# Altium schematic symbol library SenaCorpLibSCH.SchLib: 181 symbols (part 2 of 2)
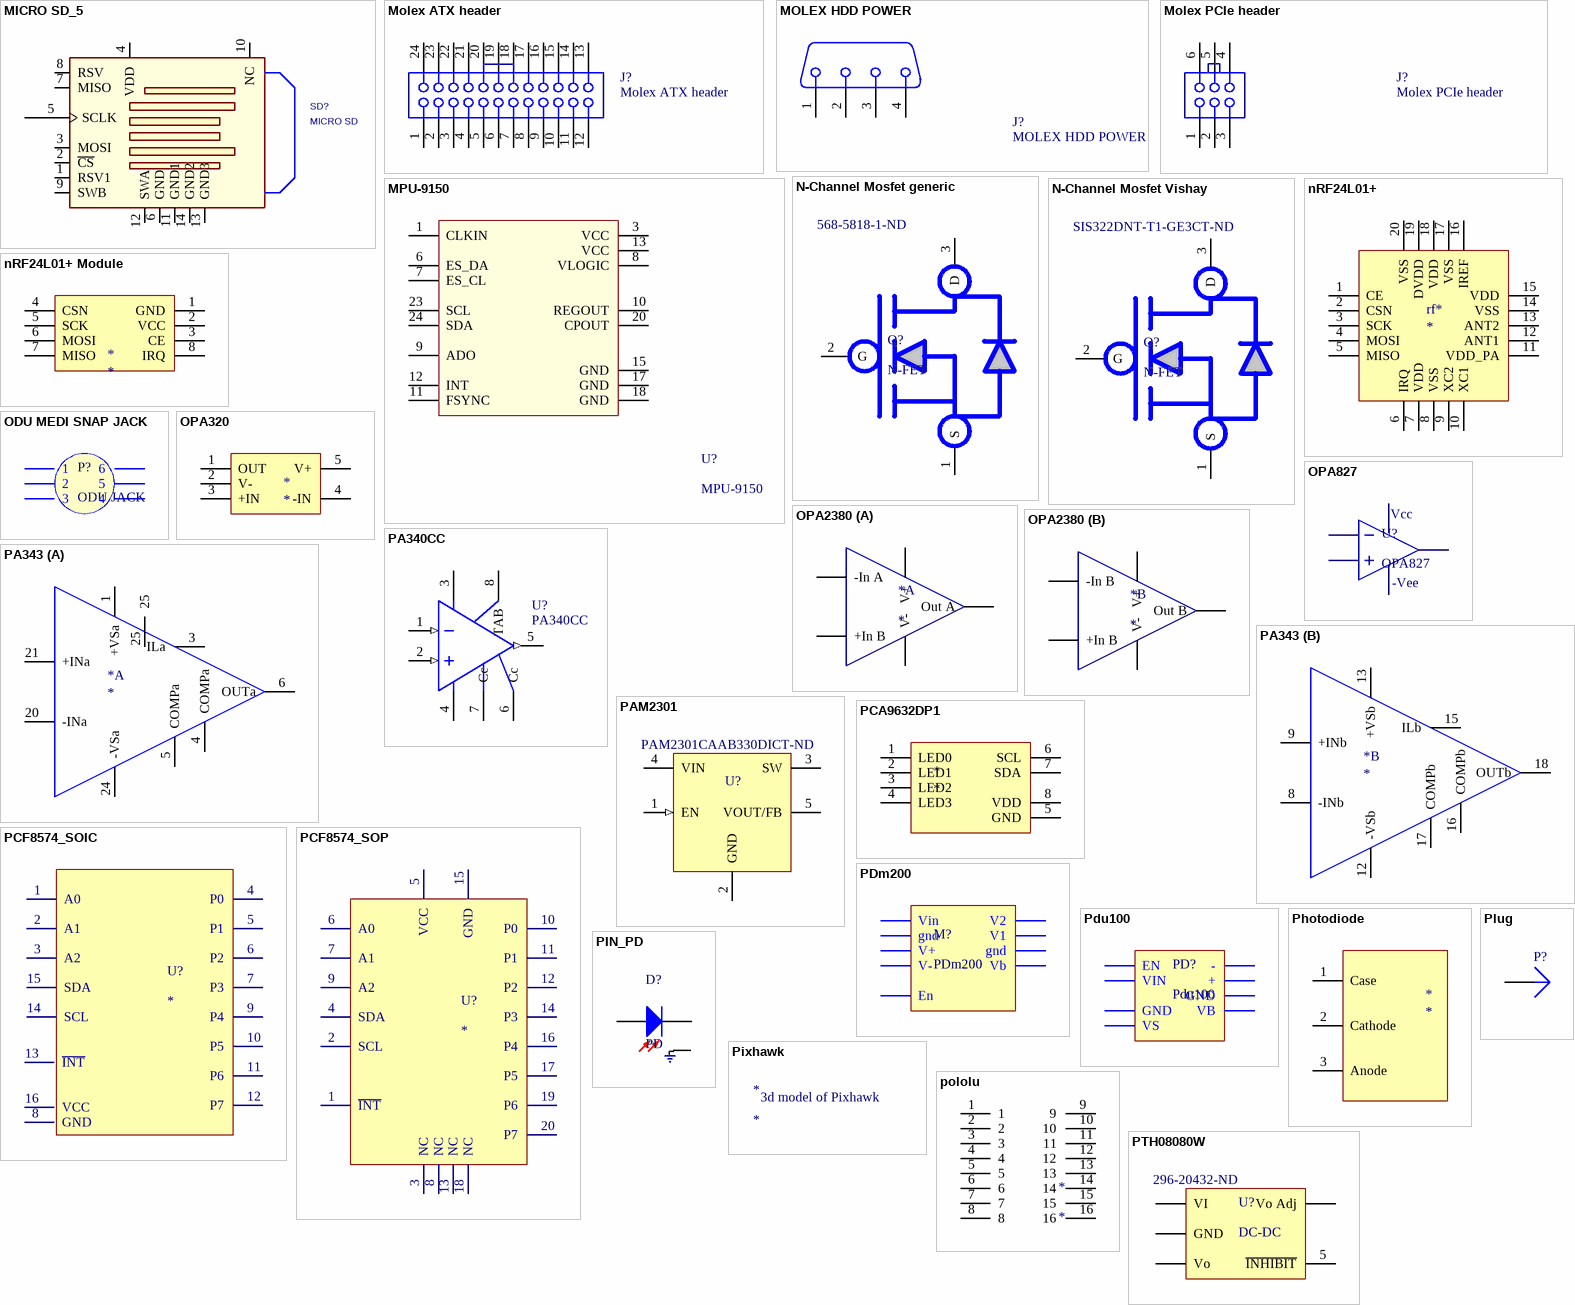
[diagram p8: symbols MICRO SD_5 to PTH08080W]

## MPU-9150
designator U?
9 Axis IMU with Sensor Fusion; Manufacturer: InvenSense; Output Type: I²C; Sensor Type: Motion Tracking; Supplier 1: Digi-Key; Pricing: 1=15.31, 5=13.43, 10=12.087, 25=10.7436, 50=9.9378, 100=8.5948, 250=8.3262, 500=8.05764, 750=7.78905 (CAD); Category: Sensors, Transducers; Manufacturer Part Number: MPU-9150; Supplier: Digi-Key; RoHS: RoHS Compliant; Supplier Part Number 1: 1428-1009-1-ND
footprint QFN50P400X400X110-24N (QFN, 24-Leads, Body 4.00x4.00mm, Pitch 0.50mm, IPC Medium Density)
pins: 1 CLKIN "Optional external reference clock input. Connect to GND if unused.", 2 NC hidden "Reserved. Do not connect.", 3 VCC "Power supply voltage and Digital I/O supply voltage", 4 NC hidden "Reserved. Do not connect.", 5 NC hidden "Reserved. Do not connect.", 6 ES_DA "Auxiliary I2C master serial data", 7 ES_CL "Auxiliary I2C master serial clock", 8 VLOGIC "Digital I/O supply voltage", 9 ADO "I2C Slave Address LSB (AD0)", 10 REGOUT "Regulator filter capacitor connection", 11 FSYNC "Frame synchronization digital input. Connect to GND if unused.", 12 INT "Interrupt digital output (totem pole or open-drain)", 13 VCC "Power supply voltage and Digital I/O supply voltage", 14 NC hidden "Reserved. Do not connect.", 15 GND "Power supply ground", 16 NC hidden "Reserved. Do not connect.", 17 GND "Power supply ground", 18 GND "Power supply ground", 19 NC hidden "Reserved. Do not connect.", 20 CPOUT "Charge pump capacitor connection", 21 NC hidden "Reserved. Do not connect.", 22 NC hidden "Reserved. Do not connect.", 23 SCL "I2C serial clock (SCL)", 24 SDA "I2C serial data (SDA)"

## N-Channel Mosfet generic
designator Q?, comment N-FET
568-5818-1-ND; Manufacturer Part Number: 2N7002P,215; Manufacturer: NXP Semiconductors; Gate Charge (Qg) @ Vgs: 0.8nC @ 4.5V; Current - Continuous Drain (Id) @ 25°C: 360mA (Ta); Power - Max: 350mW; Rds On (Max) @ Id, Vgs: 1.6 Ohm @ 500mA, 10V; FET Type: MOSFET N-Channel, Metal Oxide; Input Capacitance (Ciss) @ Vds: 50pF @ 10V; Drain to Source Voltage (Vdss): 60V; Vgs(th) (Max) @ Id: 2.4V @ 250µA; FET Feature: Logic Level Gate; Category: Discrete Semiconductor Products; Supplier: Digi-Key; Package / Case: TO-236-3, SC-59, SOT-23-3; RoHS: RoHS Compliant; Packaging: Tape & Reel (TR); Mounting Type: Surface Mount; Supplier Device Package: SOT-23 (TO-236AB); Supplier 1: Digi-Key; Supplier Part Number: 568-5818-1-ND
footprint SOT23-3 (SOT23-3 MEDIUM DENSITY)
pins: 1 S "Source", 2 G "Gate", 3 D "Drain"

## N-Channel Mosfet Vishay
designator Q?, comment N-FET  Supplier Part Number 1: SIS322DNT-T1-GE3CT-ND
N-Channel Mosfet; Rds On (Max) @ Id, Vgs: 7.5 mOhm @ 10A, 10V; Power - Max: 19.8W; Vgs(th) (Max) @ Id: 2.4V @ 250µA; FET Feature: Logic Level Gate; FET Type: MOSFET N-Channel, Metal Oxide; Drain to Source Voltage (Vdss): 30V; Current - Continuous Drain (Id) @ 25°C: 15.3A (Ta), 38.3A (Tc); Gate Charge (Qg) @ Vgs: 21.5nC @ 10V; Input Capacitance (Ciss) @ Vds: 1000pF @ 15V; Supplier 1: Digi-Key; ComponentLink1URL: http://www.vishay.com/docs/63569/sis322dnt.pdf; ComponentLink1Description: http://www.vishay.com/docs/63569/sis322dnt.pdf; Pricing: 1=0.79, 10=0.693, 25=0.6116, 100=0.533, 250=0.464, 500=0.39496, 1000=0.31636 (CAD); Supplier Device Package: PowerPAK® 1212-8
footprint PowerPAK® 1212-8T (Thin PowerPAK® 1212-8  Vishay Siliconix)
pins: 1 S "Source", 2 G "Gate", 3 D "Drain"

## nRF24L01+
designator rf*
pins: 1 CE "Chip Enable", 2 CSN "SPI Chip Select", 3 SCK "SPI Clock", 4 MOSI "SPI Slave Data Input", 5 MISO "SPI Slave Data Output w/Tri-state", 6 IRQ "interrupt pin", 7 VDD "Power", 8 VSS "Power", 9 XC2 "Crystal Pin 2", 10 XC1 "Crystal Pin 1", 11 VDD_PA "Power Output", 12 ANT1 "RF", 13 ANT2 "RF", 14 VSS "Power", 15 VDD "Power", 16 IREF "Analog Input", 17 VSS "Power", 18 VDD "Power", 19 DVDD "Power Output", 20 VSS "Power"

## nRF24L01+ Module
designator *
2.4G Wireless nRF24L01+ Module, SPI 8pin dil header
pins: 1 GND (power), 2 VCC, 3 CE, 4 CSN, 5 SCK, 6 MOSI, 7 MISO, 8 IRQ

## ODU MEDI SNAP JACK
designator P?, comment ODU JACK
G11M07-P06QF00-0070
footprint Jack (ODU MEDICAL) (ODU MEDI-SNAP (G11M07-P06QF00-0070))
pins: 1, 2, 3, 4, 5, 6

## OPA320
designator *
pins: 1 OUT, 2 V-, 3 +IN, 4 -IN, 5 V+

## OPA827
designator U?
OPAMP Low-Noise, High-Precision, JFET-Input
footprint Msop08 (Shrink Small Outline; 8 Leads; Body Width 3 mm; Pitch 0.65 mm)
pins: 2 -IN "Inverting Input", 3 +IN "Non Inverting Input", 4 GND "Ground", 6 OUT "Output", 7 V+ "Supply"
text: Vcc; -Vee

## OPA2380
designator *
footprint DB008_M (SOP, 8-Leads, Body 3x5.3mm, Pitch 0.65mm, IPC Low Density)
part A pins: 1 Out A "Tip", 2 -In A "Tip", 3 +In B "Tip", 4 V- "Tip", 8 V+ "Tip"
part B pins: 4 V- "Tip", 5 +In B "Tip", 6 -In B "Tip", 7 Out B "Tip", 8 V+ "Tip"

## PA340CC
designator U?
High Voltage Power Operational Amplifier; Note: Pin 5 is not connected; Pin 4 connected to case.; Published: 8-Jun-2000; LatestRevisionDate: 17-Jul-2002; LatestRevisionNote: Re-released for DXP Platform.; DatasheetVersion: 1992; PackageVersion: 1990; PackageReference: H-08A; Publisher: Altium Limited; PackageDescription: Can; 8 Leads; Pin Circle Dia. 5.08 mm; Lead Dia. 0.53 mm (max); ComponentLink1Description: Manufacturer Link; ComponentLink1URL: http://www.analog.com/
footprint Apex-cc (7-Pin DDPAK surface mount)
pins: 1 IN- (in), 2 IN+ (in), 3 V+ (power), 4 V- (power), 5 OUT (out), 6 Cc "COMP", 7 Cc "COMP", 8 TAB

## PA343
designator *
footprint SOP100P1420X265_HS-24N (SOP, 24-Leads, Body 16.0x11.1mm (max), Pitch 1.00mm, IPC Medium Density)
part A pins: 1 +VSa, 3 ILa, 4 COMPa, 5 COMPa, 6 OUTa, 20 -INa, 21 +INa, 24 -VSa, 25
part B pins: 8 -INb, 9 +INb, 12 -VSb, 13 +VSb, 15 ILb, 16 COMPb, 17 COMPb, 18 OUTb

## PAM2301
designator U?  Supplier Part Number: PAM2301CAAB330DICT-ND  (hidden comment: *)
800mA STEP-DOWN DC-DC CONVERTER; Manufacturer Part Number: PAM2301CAAB330; Manufacturer: Diodes Incorporated; Topology: Buck; Frequency - Switching: 1.5MHz; Voltage - Input (Min): 2.5V; Voltage - Output (Min/Fixed): 3.3V; Voltage - Input (Max): 5.5V; Output Configuration: Positive; Synchronous Rectifier: Yes; Number of Outputs: 1; Output Type: Fixed; Supplier Device Package: TSOT-25; Packaging: Cut Tape (CT); Package / Case: SOT-23-5 Thin, TSOT-23-5; Voltage - Output (Max): -; RoHS: RoHS Compliant; Category: Integrated Circuits (ICs); Current - Output: 800mA; Operating Temperature: -40°C ~ 85°C (TA); Supplier: Digi-Key; Mounting Type: Surface Mount; Function: Step-Down; ComponentLink1URL: http://www.diodes.com/datasheets/PAM2301.pdf; ComponentLink1Description: http://www.diodes.com/datasheets/PAM2301.pdf; Pricing: 1=0.91, 10=0.761, 25=0.666, 100=0.5704, 250=0.49464, 500=0.41898, 1000=0.323 (CAD)
footprint SOT23-5 (SOT23, 5-Leads, Body 2.9x1.6mm, Pitch 0.95mm, Lead Span 2.7mm, IPC Low Density)
pins: 1 EN (in) "Enable Control Input. Force this pin voltage above 1.5V, enables the chip, and  below 0.3V shuts down the device.", 2 GND (power) "Ground", 3 SW "The drains of the internal main and synchronous power MOSFET.", 4 VIN (power) "Power Supply", 5 VOUT/FB "VOUT: Output voltage feedback pin, an internal resistive divider divides the  output voltage down for comparison to the internal reference voltage.  FB: Feedback voltage to internal error amplifier, the threshold voltage is 0.6V."

## PCA9632DP1
designator *
4-bit Fm+ I2C-bus low power LED driver
pins: 1 LED0 "LED driver 0", 2 LED1 "LED driver 1", 3 LED2 "LED driver 1", 4 LED3 "LED driver 1", 5 GND, 6 SCL "i2c clock", 7 SDA "i2c data", 8 VDD "Power"

## PCF8574_SOIC
designator U?
footprint DW016_M (16-Pin Plastic Small Outline Integrated Circuit 1.27 mm Pitch, IPC Low Density)
footprint N016 (DIP; 16 Leads; Row Spacing 7.62 mm; Pitch 2.54 mm)
pins: 1 A0, 2 A1, 3 A2, 4 P0, 5 P1, 6 P2, 7 P3, 8 GND, 9 P4, 10 P5, 11 P6, 12 P7, 13 ~{INT}, 14 SCL, 15 SDA, 16 VCC

## PCF8574_SOP
designator U?
footprint TSSOP40P640X120-20M (TSSOP, 20-Leads, Body 5.1x4.5mm (max), Pitch 0.40mm, IPC Low Density)
footprint DGV020 (Shrink Small Outline; 20 Leads; Body Width 4.4 mm; Pitch 0.4 mm)
footprint PW020 (Shrink Small Outline; 20 Leads; Body Width 4.4 mm; Pitch 0.65 mm)
pins: 1 ~{INT}, 2 SCL, 3 NC, 4 SDA, 5 VCC, 6 A0, 7 A1, 8 NC, 9 A2, 10 P0, 11 P1, 12 P2, 13 NC, 14 P3, 15 GND, 16 P4, 17 P5, 18 NC, 19 P6, 20 P7

## PDm200
designator M?
Miniature Piezo Driver
footprint PDm200 (High Performance Piezo Driver)
pins: 0 hidden "Mounting Holes", 1 Vin "Input Signal", 2 gnd "Ground", 3 V+ "Positive Supply", 4 V- "Negative Supply", 5 En "Enable", 6 Vb "Bias Voltage", 7 gnd "Ground", 8 V1 "High Speed Output", 9 V2 "Low Noise Output"

## Pdu100
designator PD?
PDu100 Micro Piezo Driver
footprint PDu100 (PDu100 Micro Piezo Driver)
pins: + "Positive Out", - "Negative Out", EN "Enable", GND "Ground", GND "Ground", VB "Bias Voltage", VIN "Input", VS "Supply Voltage"

## Photodiode
designator *
Photodiode
footprint TO-39 (Can; 3 Leads; Pin Circle Dia. 5.08 mm; Lead Dia. 0.49 mm (max))
pins: 1 Case, 2 Cathode, 3 Anode

## PIN_PD
designator D?, comment PD
PIN Photodiode with Case ground; Published: 8-Jun-2000; LatestRevisionDate: 17-Jul-2002; LatestRevisionNote: Re-released for DXP Platform.; PackageVersion: Feb-2002; PackageReference: 3.2X1.6X1.1; Publisher: Altium Limited; PackageDescription: SM LED; 2 Flat Leads
footprint PIN_PD (PIN Photodiode edge connected)
footprint To-39 PD (Photodiode footprint)
footprint PD Flat (PD  lying flat on the pcb with holder)
pins: 1 PD-A "Laser diode Anode and PD Cathode", 2 PD-K "Laser Diode Cathode", 3 GND "Case Gnd"

## Pixhawk
designator *
footprint pixhawk (3d model of body)
text: 3d model of Pixhawk

## Plug
designator P?
Plug; LatestRevisionDate: 17-Jul-2002; LatestRevisionNote: Re-released for DXP Platform.; Publisher: Altium Limited
footprint PIN1 (Connector; Plug)
signal-integrity model Connector
pins: 1

## pololu
designator *
footprint Pololu MOD0.6x0.8 inch 0.1 DIP (Pololu standard board outline w / TH pins (scored))
footprint Pololu MOD0.8x0.8 inch 0.1 DIP SMTpins (Expanded Pololu compatible  board outline w / SMT pins (scored))
pins: 1, 2, 3, 4, 5, 6, 7, 8, 9, 10, 11, 12, 13, 14, 15, 16

## PTH08080W
designator U?, comment DC-DC  Supplier Part Number: 296-20432-ND
2.25 A, 4.5-V to 18-V Input Wide Adjust Miniature Power Module; Manufacturer: Texas Instruments; Power (Watts) - Manufacture Series: 12W; Manufacturer Part Number: PTH08080WAH; Voltage - Input (Max): 18V; Voltage - Input (Min): 4.5V; Number of Outputs: 1; Efficiency: 93.5%; Power (Watts) - Max: 12.4W; Voltage - Output 1: 0.9 ~ 5.5 V; Current - Output (Max): 2.25A; Features: -; Size / Dimension: 0.60" L x 0.50" W x 0.32" H (15.2mm x 12.7mm x 8.1mm); Supplier: Digi-Key; Operating Temperature: -40°C ~ 85°C; Category: Power Supplies - Board Mount; Type: Non-Isolated PoL Module; Voltage - Output 3: -; Packaging: Tray; Package / Case: 5-DIP Module; Mounting Type: Through Hole; Voltage - Output 2: -; RoHS: RoHS Compliant; Voltage - Isolation: -; Pricing: 1=8.75, 5=8.628, 10=8.502, 50=8.0024, 100=7.7524, 250=7.50232, 500=7.00216 (CAD); ComponentLink1URL: http://www.ti.com/lit/ds/symlink/pth08080w.pdf; ComponentLink1Description: http://www.ti.com/lit/ds/symlink/pth08080w.pdf
footprint PTH08080W (2.25 A, 4.5-V to 18-V Input Wide Adjust Miniature Power Module)
pins: 1 VI, 2 GND, 3 Vo, 4 Vo Adj, 5 ~{INHIBIT}

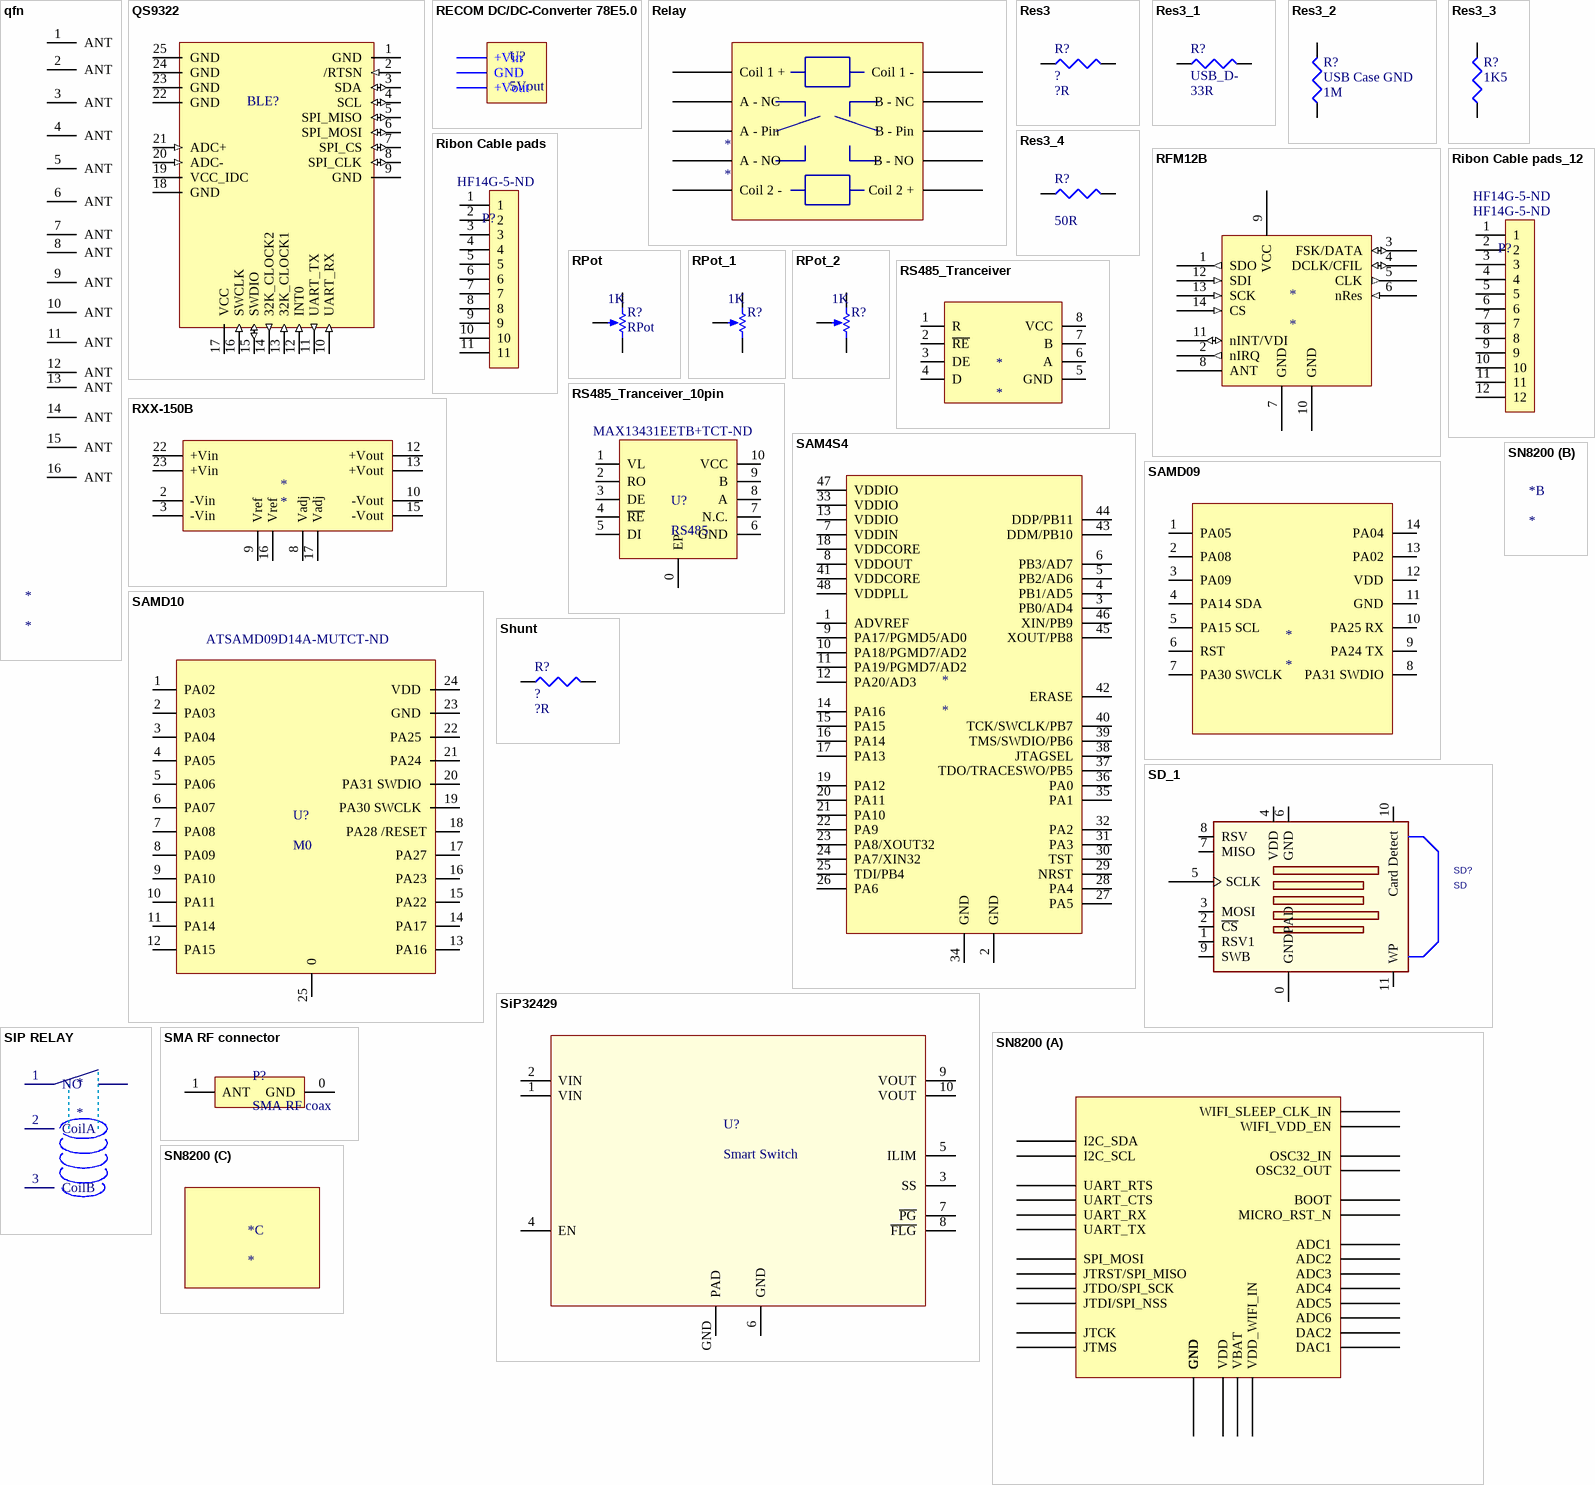
[diagram p5: symbols qfn to SN8200]

## qfn
designator *
footprint QFN65P400X400X80_HS-17N (QFN, 16-Leads, Body 4.00x4.00mm, Pitch 0.65mm, Thermal Pad 2.08x2.08mm, IPC Medium Density)
footprint SOT403-1_M (TSOP, 16-Leads, Body 5x4.4mm, Pitch 0.65mm, IPC Low Density)
pins: 1 ANT, 2 ANT, 3 ANT, 4 ANT, 5 ANT, 6 ANT, 7 ANT, 8 ANT, 9 ANT, 10 ANT, 11 ANT, 12 ANT, 13 ANT, 14 ANT, 15 ANT, 16 ANT

## QS9322
designator BLE?  (value not drawn)
QS9322 Bluetooth 4.0 Low Energy Module
footprint QS9322 (QS9322 Bluetooth 4.0 Low Energy Module)
pins: 1 GND (power) "Should be connected to ground plane on application PCB", 2 /RTSN (in) "Hardware reset, active low.", 3 SDA (io) "GPIO / I2C data with pull-up", 4 SCL (io) "GPIO / I2C clock", 5 SPI_MISO (io) "GPIO / SPI data master in/slave out", 6 SPI_MOSI (io) "GPIO / SPI data master out/slave in", 7 SPI_CS (io) "GPIO / SPI chip select", 8 SPI_CLK (io) "GPIO / SPI clock", 9 GND (power) "Should be connected to ground plane on application PCB", 10 UART_RX (in) "GPIO / UART RX data input", 11 UART_TX (out) "GPIO / UART TX data output", 12 INT0 (in) "GPIO / Interrupt", 13 32K_CLOCK1 (in) "Not connected", 14 32K_CLOCK2 (out) "Not connected", 15 SWDIO (io) "SWD data with pull-up", 16 SWCLK (in) "SWD clock input with pull-up 17", 17 VCC (power) "Power supply (2.4~3.6V)", 18 GND (power) "Should be connected to ground plane on application PCB", 19 VCC_IDC (power) "Not connected", 20 ADC- (in) "GPIO / ADC-", 21 ADC+ (in) "GPIO / ADC+", 22 GND (power) "Should be connected to ground plane on application PCB", 23 GND (power) "Should be connected to ground plane on application PCB", 24 GND (power) "Should be connected to ground plane on application PCB", 25 GND (power) "Should be connected to ground plane on application PCB"

## RECOM DC/DC-Converter 78E5.0
designator U?, comment 5Vout
DC/DC-Converter 5V / 500 mA Output
footprint RECOM R-78E5.0-0.5 (DC/DC-Converter 5V / 500 mA Output)
pins: 1 +Vin "Vin", 2 GND "Ground", 3 +Vout "Vout"

## Relay
designator *
Relay 5v DPDT 2 coil latching or 1 coil non latching
footprint DIP Relay DPDT
footprint Relay SMT
pins: 1 Coil 1 + "Tip", 3 A - NC "Tip", 4 A - Pin "Tip", 5 A - NO "Tip", 6 Coil 2 - "Tip", 7 Coil 2 + "Tip", 8 B - NO "Tip", 9 B - Pin "Tip", 10 B - NC "Tip", 12 Coil 1 - "Tip"

## Res3
designator R?, comment ?  value ?R
Resistor; Published: 8-Jun-2000; LatestRevisionDate: 04-Mar-2005; LatestRevisionNote: PCB Footprint replaced.; PackageReference: J1-0603; Publisher: Altium Limited
footprint 0603 (SMT  0603)
footprint 3225[1210] (Chip Resistor; Body 3.2 x 2.5 mm (LxW typ))
footprint 5025[2010] (Chip Resistor; Body 5.0 x 2.5 mm (LxW typ))
footprint 6332[2512] (Chip Resistor; Body 6.3 x 3.2 mm (LxW typ))
simulation model RESISTOR (Resistor)
signal-integrity model Res
footprint RESC1608M
footprint SMD0603-SST (SST SMD 0603 small silk screen)
footprint Resistor 2725
pins: 1, 2

## Res3_1
designator R?, comment USB_D-  value 33R
Resistor; Published: 8-Jun-2000; LatestRevisionDate: 04-Mar-2005; LatestRevisionNote: PCB Footprint replaced.; PackageReference: J1-0603; Publisher: Altium Limited
footprint J1-0603 (Chip Resistor; Body 1.6 x 0.8 mm (LxW typ))
footprint 3225[1210] (Chip Resistor; Body 3.2 x 2.5 mm (LxW typ))
footprint 5025[2010] (Chip Resistor; Body 5.0 x 2.5 mm (LxW typ))
footprint 6332[2512] (Chip Resistor; Body 6.3 x 3.2 mm (LxW typ))
simulation model RESISTOR (Resistor)
signal-integrity model Res
footprint Model Name (Footprint not found)
footprint RESC0603M (Chip Resistor, Body 0.6x0.3mm, IPC Low Density)
footprint RESC1608M
pins: 1, 2

## Res3_2
designator R?, comment USB Case GND  value 1M
Resistor; Published: 8-Jun-2000; LatestRevisionDate: 04-Mar-2005; LatestRevisionNote: PCB Footprint replaced.; PackageReference: J1-0603; Publisher: Altium Limited
footprint J1-0603 (Chip Resistor; Body 1.6 x 0.8 mm (LxW typ))
footprint 3225[1210] (Chip Resistor; Body 3.2 x 2.5 mm (LxW typ))
footprint 5025[2010] (Chip Resistor; Body 5.0 x 2.5 mm (LxW typ))
footprint 6332[2512] (Chip Resistor; Body 6.3 x 3.2 mm (LxW typ))
simulation model RESISTOR (Resistor)
signal-integrity model Res
footprint RESC1608M
pins: 1, 2

## Res3_3
designator R?  value 1K5
Resistor; Published: 8-Jun-2000; LatestRevisionDate: 04-Mar-2005; LatestRevisionNote: PCB Footprint replaced.; PackageReference: J1-0603; Publisher: Altium Limited
footprint J1-0603 (Chip Resistor; Body 1.6 x 0.8 mm (LxW typ))
footprint 3225[1210] (Chip Resistor; Body 3.2 x 2.5 mm (LxW typ))
footprint 5025[2010] (Chip Resistor; Body 5.0 x 2.5 mm (LxW typ))
footprint 6332[2512] (Chip Resistor; Body 6.3 x 3.2 mm (LxW typ))
simulation model RESISTOR (Resistor)
signal-integrity model Res
footprint RESC1608M
pins: 1, 2

## Res3_4
designator R?  value 50R
Resistor; Published: 8-Jun-2000; LatestRevisionDate: 04-Mar-2005; LatestRevisionNote: PCB Footprint replaced.; PackageReference: J1-0603; Publisher: Altium Limited
footprint J1-0603 (Chip Resistor; Body 1.6 x 0.8 mm (LxW typ))
footprint 3225[1210] (Chip Resistor; Body 3.2 x 2.5 mm (LxW typ))
footprint 5025[2010] (Chip Resistor; Body 5.0 x 2.5 mm (LxW typ))
footprint 6332[2512] (Chip Resistor; Body 6.3 x 3.2 mm (LxW typ))
simulation model RESISTOR (Resistor)
signal-integrity model Res
footprint RESC1608M
pins: 1, 2

## RFM12B
designator *
footprint RFM12S
pins: 1 SDO (out), 2 nIRQ (out), 3 FSK/DATA (io), 4 DCLK/CFIL (io), 5 CLK (out), 6 nRes (in), 7 GND (power), 8 ANT, 9 VCC (power), 10 GND (power), 11 nINT/VDI (io), 12 SDI (in), 13 SCK (in), 14 CS (in)

## Ribon Cable pads
designator P?, comment Supplier Part Number 1: HF14G-5-ND  (hidden comment: Ribon Cable pads 11 pad)
Pads to solder a ribbon cable to 11pins; Supplier 1: Digi-Key; Pricing: 1=19.53, 5=18.144 (CAD)
footprint Ribbon 11 1.27mm (Pads for 1.27mm pitch ribbon cable)
pins: 1, 2, 3, 4, 5, 6, 7, 8, 9, 10, 11

## Ribon Cable pads_12
designator P?, comment Supplier Part Number 1: HF14G-5-ND  (hidden comment: Ribon Cable pads 12 pads)
Pads to solder a ribbon cable to 12pins; Manufacturer Part Number: HF539/14; Manufacturer: 3M; Shielding: Unshielded; Jacket Color: Gray; Insulation Resistance: 10 GOhm; Conductor Strand: 19 Strands / 40 AWG; Conductor Material: Copper, Tinned; Cable Type: Flat Cable; Ribbon Width: 0.700" (17.78mm); Ribbon Thickness: 0.035" (0.89mm); Ratings: UL Style 21682; Number of Conductors: 14; Pitch: 0.050" (1.27mm); Voltage: 300V; Wire Gauge: 28 AWG; First Conductor Mark: Blue; Jacket (Insulation) Material: Polyolefin (PO); Current Rating: 1A; Supplier 1: Digi-Key; Supplier: Digi-Key; Operating Temperature: -40°C ~ 105°C; Category: Cables, Wires; RoHS: RoHS Compliant; Length: 5.0' (1.52m); Features: Zippable; ComponentLink1URL: http://media.digikey.com/pdf/Data%20Sheets/3M%20PDFs/HF539%20Drawing.pdf; ComponentLink1Description: http://media.digikey.com/pdf/Data%20Sheets/3M%20PDFs/HF539%20Drawing.pdf; Pricing: 1=19.53, 5=18.144 (CAD); Supplier Part Number: HF14G-5-ND
footprint Ribbon 12 1.27mm (Pads for 1.27mm pitch ribbon cable)
pins: 1, 2, 3, 4, 5, 6, 7, 8, 9, 10, 11, 12

## RPot
designator R?  value 1K
Potentiometer; Sim Note: Enter the Resistance value and the set point into parameter fields.; Set Position: 0.5; Published: 8-Jun-2000; LatestRevisionDate: 17-Jul-2002; LatestRevisionNote: Re-released for DXP Platform.; PackageReference: VR5; Publisher: Altium Limited; PackageDescription: Variable Resistor, Thru-Hole; 3 Leads
footprint Rpot (Adjustable Resistor 3 pin, top screw)
footprint Res Trim POT SMD (TRIMMER SMD TT Electronics)
pins: 1 TOP, 2 TAP, 3 BOT
1 alternate drawing of the same symbol

## RPot_1
designator R?  value 1K
Potentiometer; Sim Note: Enter the Resistance value and the set point into parameter fields.; Set Position: 0.5; Published: 8-Jun-2000; LatestRevisionDate: 17-Jul-2002; LatestRevisionNote: Re-released for DXP Platform.; PackageReference: VR5; Publisher: Altium Limited; PackageDescription: Variable Resistor, Thru-Hole; 3 Leads
simulation model POT (Potentiometer)
footprint VR5 (Thru-Hole; 3 Leads)
pins: 1 TOP, 2 TAP, 3 BOT
1 alternate drawing of the same symbol

## RPot_2
designator R?  value 1K
Potentiometer; Sim Note: Enter the Resistance value and the set point into parameter fields.; Set Position: 0.5; Published: 8-Jun-2000; LatestRevisionDate: 17-Jul-2002; LatestRevisionNote: Re-released for DXP Platform.; PackageReference: VR5; Publisher: Altium Limited; PackageDescription: Variable Resistor, Thru-Hole; 3 Leads
footprint VR5 (Thru-Hole; 3 Leads)
simulation model POT (Potentiometer)
pins: 1 TOP, 2 BOT, 3 TAP
1 alternate drawing of the same symbol

## RS485_Tranceiver
designator *
footprint SOIC8
pins: 1 R, 2 ~{RE}, 3 DE, 4 D, 5 GND, 6 A, 7 B, 8 VCC

## RS485_Tranceiver_10pin
designator U?, comment RS485  Supplier Part Number: MAX13431EETB+TCT-ND
RS-485 Transceivers with Low-Voltage Logic Interface; Manufacturer Part Number: MAX13431EETB+T; Manufacturer: Maxim Integrated; Receiver Hysteresis: 15mV; Description: IC TXRX RS422/485 16MBPS 10TDFN; Voltage - Supply: 3 V ~ 5.5 V; Data Rate: 16Mbps; Duplex: Half; Protocol: RS422, RS485; Number of Drivers/Receivers: 1/1; Category: Integrated Circuits (ICs); Mounting Type: Surface Mount; Type: Transceiver; Operating Temperature: -40°C ~ 85°C; Supplier Device Package: 10-TDFN-EP (3x3); Supplier: Digi-Key; Package / Case: 10-WFDFN Exposed Pad; Packaging: Cut Tape (CT); RoHS: RoHS Compliant; ComponentLink1URL: http://datasheets.maximintegrated.com/en/ds/MAX13430E-MAX13433E.pdf; ComponentLink1Description: http://datasheets.maximintegrated.com/en/ds/MAX13430E-MAX13433E.pdf; Pricing: 1=7.02, 10=6.615, 25=5.292, 50=5.0276, 100=4.6306, 250=4.39248, 500=4.23372 (CAD)
footprint DFN10_3X3MM
footprint TSSOP50P490X110-10N (TSSOP, 10-Leads, Body 2.97x2.97mm, Pitch 0.50mm, IPC Medium Density)
pins: 0 EP "Connect EP to GND", 1 VL "VL Input Logic-Supply Voltage", 2 RO "Receiver Output", 3 DE "Driver Output Enable.", 4 ~{RE} "Active-Low Receiver Output Enable", 5 DI "Driver input", 6 GND "Ground", 7 N.C. "No Connection. Not internally connected. N.C. can be connected to GND", 8 A "Noninverting Receiver Input and Noninverting Driver Output", 9 B "Inverting Receiver Input and Inverting Driver Output", 10 VCC "VCC Input Supply Voltage."

## RXX-150B
designator *
footprint Recom DIP24
pins: 2 -Vin, 3 -Vin, 8 Vadj, 9 Vref, 10 -Vout, 12 +Vout, 13 +Vout, 15 -Vout, 16 Vref, 17 Vadj, 22 +Vin, 23 +Vin

## SAM4S4
designator *
footprint QFP48
pins: 1 ADVREF, 2 GND, 3 PB0/AD4, 4 PB1/AD5, 5 PB2/AD6, 6 PB3/AD7, 7 VDDIN, 8 VDDOUT, 9 PA17/PGMD5/AD0, 10 PA18/PGMD7/AD2, 11 PA19/PGMD7/AD2, 12 PA20/AD3, 13 VDDIO, 14 PA16, 15 PA15, 16 PA14, 17 PA13, 18 VDDCORE, 19 PA12, 20 PA11, 21 PA10, 22 PA9, 23 PA8/XOUT32, 24 PA7/XIN32, 25 TDI/PB4, 26 PA6, 27 PA5, 28 PA4, 29 NRST, 30 TST, 31 PA3, 32 PA2, 33 VDDIO, 34 GND, 35 PA1, 36 PA0, 37 TDO/TRACESWO/PB5, 38 JTAGSEL, 39 TMS/SWDIO/PB6, 40 TCK/SWCLK/PB7, 41 VDDCORE, 42 ERASE, 43 DDM/PB10, 44 DDP/PB11, 45 XOUT/PB8, 46 XIN/PB9, 47 VDDIO, 48 VDDPLL

## SAMD09
designator *
footprint SOIC14
pins: 1 PA05, 2 PA08, 3 PA09, 4 PA14 SDA, 5 PA15 SCL, 6 RST, 7 PA30 SWCLK, 8 PA31 SWDIO, 9 PA24 TX, 10 PA25 RX, 11 GND, 12 VDD, 13 PA02, 14 PA04

## SAMD10
designator U?, comment M0  Supplier Part Number: ATSAMD09D14A-MUTCT-ND
Atmel SamD10 or SamD09; Manufacturer Part Number: ATSAMD09D14A-MUT; Program Memory Type: FLASH; RAM Size: 4K x 8; Core Processor: ARM® Cortex®-M0+; Program Memory Size: 16KB (16K x 8); Oscillator Type: Internal; Data Converters: A/D 10x12b; Voltage - Supply (Vcc/Vdd): 1.62 V ~ 3.63 V; Number of I/O: 22; Peripherals: Brown-out Detect/Reset, DMA, POR, WDT; Connectivity: I²C, LIN, SPI, UART/USART; Speed: 48MHz; Core Size: 32-Bit; Manufacturer: Atmel; Package / Case: 24-VFQFN Exposed Pad; Operating Temperature: -40°C ~ 85°C (TA); EEPROM Size: -; Packaging: Cut Tape (CT); RoHS: RoHS Compliant; Supplier: Digi-Key; Category: Integrated Circuits (ICs); Supplier Device Package: 24-QFN (4x4); Pricing: 1=1.67, 10=1.466, 25=1.324, 100=1.1581, 250=1.01568, 500=0.90078, 1000=0.71235 (CAD); ComponentLink1URL: http://www.atmel.com/Images/Atmel-42414-SAM-D09_Datasheet.pdf; ComponentLink1Description: http://www.atmel.com/Images/Atmel-42414-SAM-D09_Datasheet.pdf
footprint QFN50P400X400X80_HS-25N (QFN, 24-Leads, Body 4.00x4.00mm, Pitch 0.50mm, Thermal Pad 2.25x2.25mm, IPC Medium Density)
pins: 1 PA02, 2 PA03, 3 PA04, 4 PA05, 5 PA06, 6 PA07, 7 PA08 "XIN", 8 PA09 "XOUT", 9 PA10, 10 PA11, 11 PA14 "SERCOM0/PAD[0]", 12 PA15 "SERCOM0/PAD[1]", 13 PA16, 14 PA17, 15 PA22 "SERCOM1/PAD[0]", 16 PA23 "SERCOM1/PAD[1]", 17 PA27, 18 PA28 /RESET "/RESET/", 19 PA30 SWCLK "SWCLK", 20 PA31 SWDIO "SWDIO", 21 PA24, 22 PA25, 23 GND, 24 VDD, 25 0

## SD_1
designator SD?, comment SD
footprint SD Card (amphenol SD Card holder push pull part no 1010070864)
footprint SD Card - 2 (14 5738 009 784 859+ kyocera)
pins: 0 GNDPAD, 1 RSV1, 2 ~{CS}, 3 MOSI, 4 VDD (power), 5 SCLK, 6 GND (power), 7 MISO, 8 RSV, 9 SWB, 10 Card Detect, 11 WP

## Shunt
designator R?, comment ?  value ?R
Shunt; Published: 8-Jun-2000; LatestRevisionDate: 04-Mar-2005; LatestRevisionNote: PCB Footprint replaced.; PackageReference: J1-0603; Publisher: Altium Limited
footprint 0603 - Shunt (SMT  0603 Shunt)
pins: 1, 1

## SiP32429
designator U?, comment Smart Switch
28 V, 56 m, Load Switch  with Programmable Current Limit and Slew Rate Control
footprint DFN10_3X3MM
pins: 1 VIN "Power input", 2 VIN "Power input", 3 SS "Soft-Start pin. Connect a capacitor from SS to GND to program the soft-start", 4 EN "Enable input. Logic high enabled", 5  ILIM "Current limit setting pin. Connect RSET resistor to GND", 6 GND "Ground", 7 ~{PG} "Power Good", 8 ~{FLG} "Fault condition flag", 9 VOUT "Switch output", 10 VOUT "Switch output", GND PAD "Connect this pad to GND or leave it floating"

## SIP RELAY
designator *
footprint Sip Relay (Relay sip no)
pins: 1 NO, 2 CoilA, 3 CoilB, 4

## SMA RF connector
designator P?, comment SMA RF coax
footprint SMA Edge Launch (SMA RF connector)
footprint RP-SMA (RP-SMA Vertical)
pins: 0 GND, 1 ANT

## SN8200
designator *
SN8200  Wi-Fi Network Controller Module
footprint SN8200 (muRata SN8200 Wifi Module Footprint)
footprint SN8200 - Long pads (muRata SN8200 Wifi Module Footprint)
part A pins: 1 GND "Ground", 2 OSC32_IN "32KHz Crystal input", 3 OSC32_OUT "32KHz Crystal output", 4 WIFI_VDD_EN "Enable Wi-Fi VDD", 5 ADC3 "General purpose I/O or ADC3", 6 ADC4 "General purpose I/O or ADC4", 7 ADC5 "General purpose I/O or ADC5", 8 VDD "DC supply for MCU and I/O", 9 ADC6 "General purpose I/O or ADC6", 10 DAC2 "General purpose I/O or DAC2", 11 DAC1 "General purpose I/O or DAC2", 12 ADC1 "General purpose I/O or ADC1", 15 GND "Ground", 16 GND "Ground", 17 GND "Ground", 18 GND "Ground", 19 GND "Ground", 20 GND "Ground", 21 GND "Ground", 22 GND "Ground", 23 GND "Ground", 24 GND "Ground", 25 GND "Ground", 26 VDD_WIFI_IN "Wi-Fi power supply", 30 WIFI_SLEEP_CLK_IN "32KHz Wi-Fi sleep clock input", 31 GND "Ground", 32 UART_TX "General purpose I/O or UART_TX", 33 UART_RX "General purpose I/O or UART_RX", 34 UART_CTS "General purpose I/O or UART_CTS", 35 UART_RTS "General purpose I/O or UART_RTS", 36 JTMS "General purpose I/O or JTMS", 37 JTDI/SPI_NSS "General purpose I/O or JTDI or SPI_NSS", 38 JTCK "General purpose I/O or JTCK", 39 GND "Ground", 40 JTDO/SPI_SCK "General purpose I/O or JTDO or SPI_SCK", 41 JTRST/SPI_MISO "General purpose I/O or JTRST or SPI_MISO", 42 SPI_MOSI "General purpose I/O or SPI_MOSI", 43 I2C_SCL "General purpose I/O or I2C_SCL", 44 I2C_SDA "General purpose I/O or I2C_SDA", 45 BOOT "Normal operation if connected to ground at power up.", 46 ADC2 "General purpose I/O or ADC2", 47 MICRO_RST_N "Module reset", 48 VBAT "Power supply for backup circuitry when VDD is not present", 49 GND "Ground", 50 GND "Ground", 51 GND "Ground", 52 GND "Ground", 53 GND "Ground", 54 GND "Ground", 55 GND "Ground", 56 GND "Ground", 57 GND "Ground", 58 GND "Ground", 59 GND "Ground", 60 GND "Ground", 62 GND "Ground"
part C pins: 13 Reserved hidden "No connect", 14 Reserved hidden "No connect", 27 Reserved hidden "No connect", 28 Reserved hidden "No connect", 29 Reserved hidden "No connect", 61 Reserved hidden "No connect"

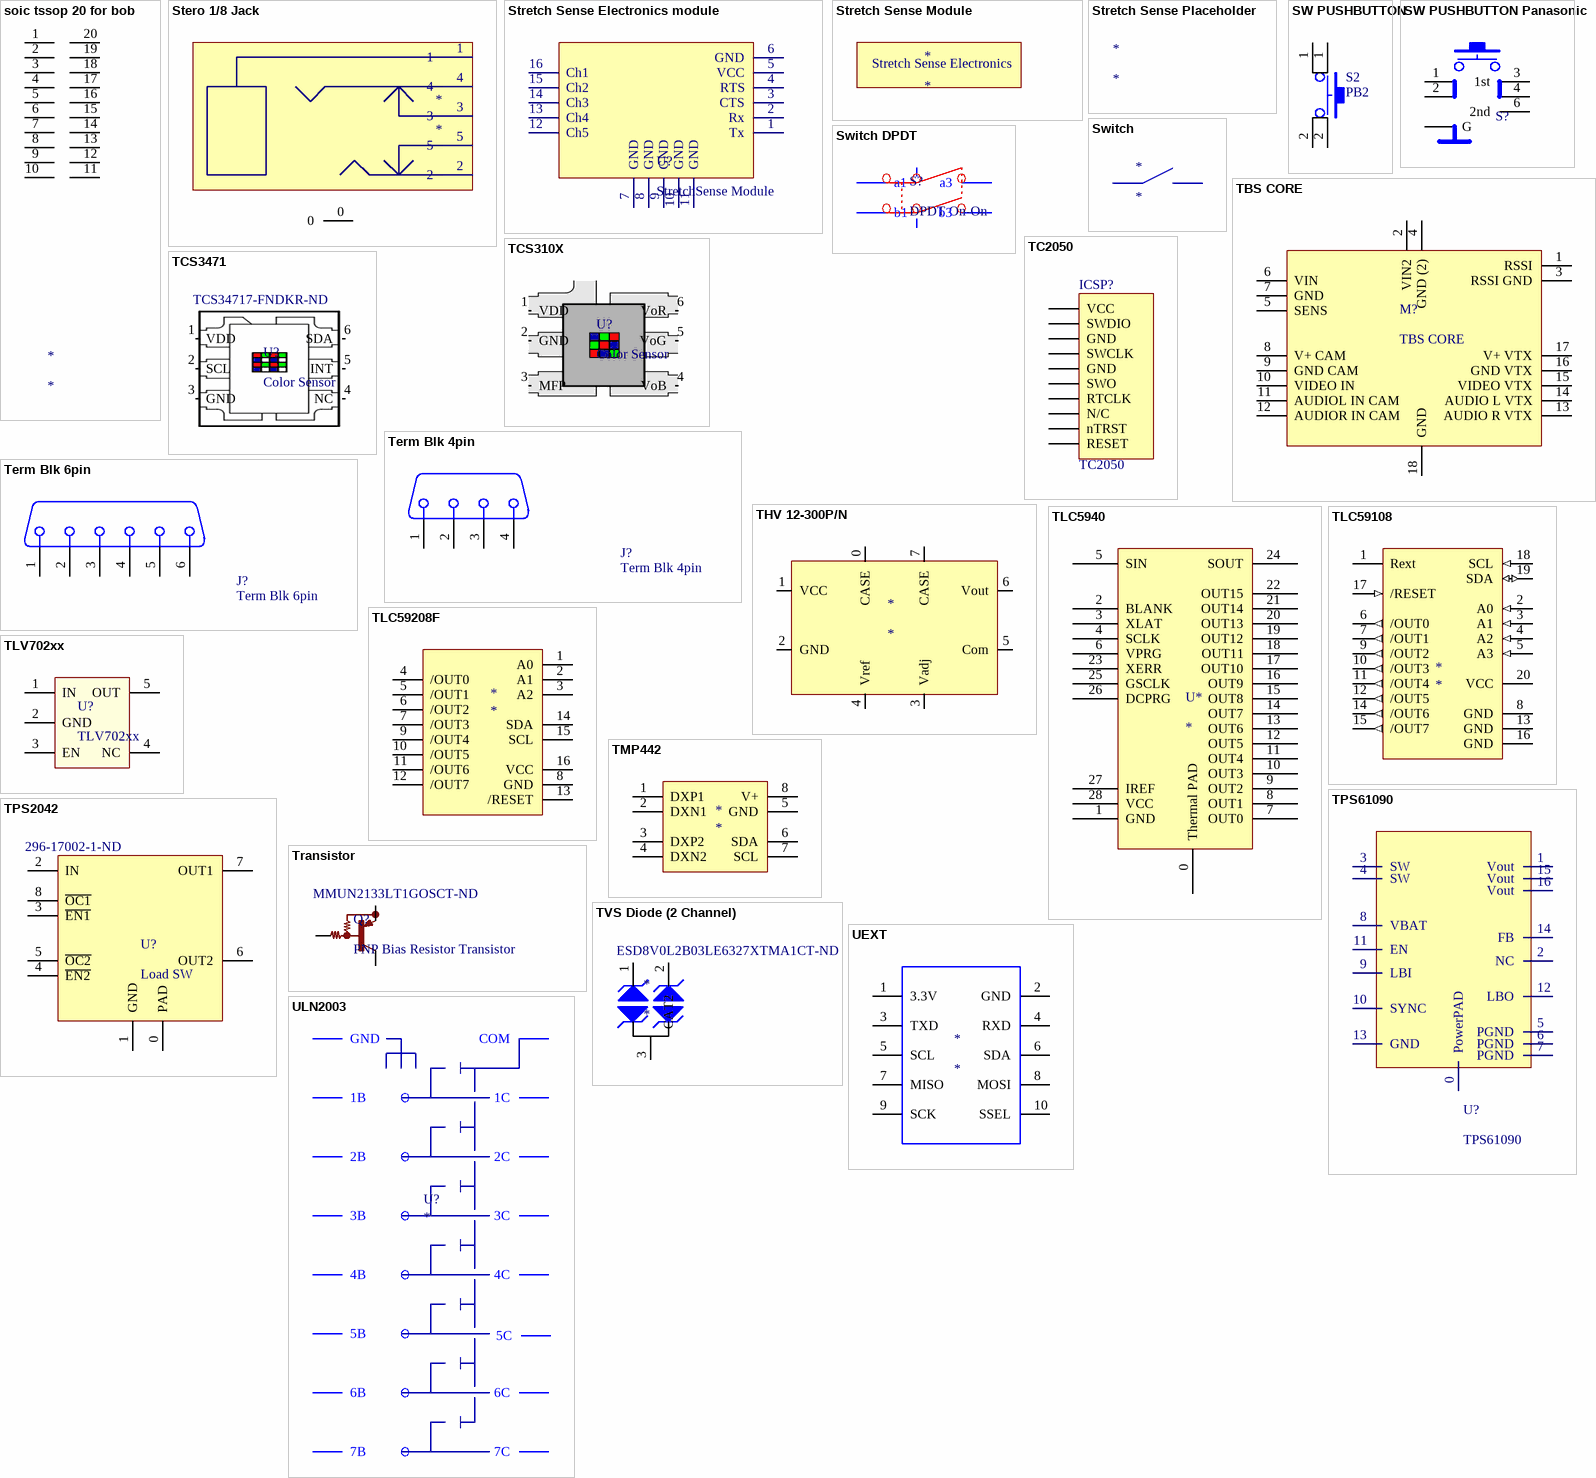
[diagram p6: symbols soic tssop 20 for bob to ULN2003]

## soic tssop 20 for bob
designator *
footprint SOP65P550X175-20M (SOP, 20-Leads, Body 5.00x3.80mm, Pitch 0.65mm, IPC Low Density)
footprint SOIC127P780X265-20M (SOIC, 20-Leads, Body 11.55x6.00mm, Pitch 1.27mm, IPC Low Density)
pins: 1, 2, 3, 4, 5, 6, 7, 8, 9, 10, 11, 12, 13, 14, 15, 16, 17, 18, 19, 20

## Stero 1/8 Jack
designator *
footprint Stereo 1/8 jack (35RAPC4BV4 switches on both pins)
footprint AudioJack IPX7 (LGY2109-3900F)
pins: 0, 1, 2, 3, 4, 5

## Stretch Sense Electronics module
designator U?, comment StretchSense Module
footprint Stretch Sense Electronics
pins: 1 Tx "SS Tx", 2 Rx "SS Rx", 3 CTS "Clear to Send", 4 RTS "Ready to Send", 5 VCC "Supply Voltage (LiPo 3.3-4.2V)", 6 GND "Ground", 7 GND "Ground", 8 GND "Ground", 9 GND "Ground", 10 GND "Ground", 11 GND "Ground", 12 Ch5 "Channel 5", 13 Ch4 "Channel 4", 14 Ch3 "Channel 3", 15 Ch2 "Channel 2", 16 Ch1 "Channel 1"

## Stretch Sense Module
designator *
footprint Stretch Sense Electronics
text: Stretch Sense Electronics

## Stretch Sense Placeholder
designator *

## SW PUSHBUTTON
designator S2, comment PB2
SWITCH TACT 2.36MM SILV J-LEAD; Manufacturer: C&K; MPN: KT11P2JM34LFS; Value: Tact Switch; Populate: Y; DigiKeyPartNumber: KT11P2JM, KT11P2JM34LFS; SMT: Y; PartType: Switch
footprint SW/C&K/KT11P2JM
footprint Tac Sw RA SMT (TE 1571262-2   SWITCH TACTILE SPST-NO 0.05A 12V)
footprint PTS840 (Switch)
pins: 1, 1, 2, 2

## SW PUSHBUTTON Panasonic
designator S?
SWITCH TACT; Manufacturer: C&K; MPN: KT11P2JM34LFS; Value: Tact Switch; Populate: Y; DigiKeyPartNumber: KT11P2JM, KT11P2JM34LFS; SMT: Y; PartType: Switch
footprint SW PB SMD RA EVPAJ - Double Action (4.7mmx3.5mm Double-actionSide-operational LightTouchSwitches)
pins: 1, 2, 3 1st, 4, 5 G, 6 2nd

## Switch
designator *

## Switch DPDT
designator S?, comment DPDT On-On
SW653-ND
footprint ROCKER SWITCH (SW653-ND)
pins: 1 a1 "NC a", 2 a2 "COM a", 3 a3 "NO a", 4 b1 "NC b", 5 b2 "COM b", 6 b3 "NO b"

## TBS CORE
designator M?
TBS CORE POWER CLEANER AND OSD
footprint TBS CORE (OSD And Power cleaner)
pins: 1 RSSI "RSSI Signal", 2 VIN2 "VIN 2 BACKUP SUPPLY", 3 RSSI GND, 4 GND (2) "VIN 2 GND BACKUP SUPPLY", 5 SENS "CURRENT SENSE", 6 VIN, 7 GND, 8 V+ CAM "CAM V+", 9 GND CAM "CAM GND", 10 VIDEO IN "CAM VIDEO", 11 AUDIOL IN CAM "CAM AUDIO L", 12 AUDIOR IN CAM "CAM AUDIO R", 13 AUDIO R VTX "VTX", 14 AUDIO L VTX "VTX", 15 VIDEO VTX "VTX VIDEO", 16 GND VTX "VTX GND", 17 V+ VTX "VTX", 18 GND  "SHEILD GND"

## TC2050
designator ICSP?
ICSP Header
footprint TC2050-IDC-NL (Tag-Connect 10-Pin with No Legs (PN# TC2050-IDC-NL))
footprint TagConnect
pins: 1 VCC, 2 SWDIO, 3 GND, 4 SWCLK, 5 GND, 6 SWO, 7 RTCLK, 8 N/C, 9 nTRST, 10 RESET

## TCS310X
designator U?, comment Color Sensor
LIGHT-TO-VOLTAGE COLOR SENSOR
footprint 6 LD ODFN - No Pad
pins: 1 VDD "Supply Voltage", 2 GND "Power supply ground. All voltages are referenced to GND.", 3 MFP "Multi-function logic input.", 4 VoB "Blue channel voltage output", 5 VoG "Green channel voltage output", 6 VoR "Red channel voltage output"

## TCS3471
designator U?, comment Color Sensor  Supplier Part Number: TCS34717-FNDKR-ND
COLOR LIGHT-TO-DIGITAL CONVERTER; Manufacturer Part Number: TCS34717FN; Manufacturer: AMS-TAOS USA Inc; Voltage - Supply: 2.7 V ~ 3.3 V; Output: I²C; Current - Supply (Max): 330µA @ 3V; Resolution (Bits): 16 b; Package / Case: 6-SMD Module; Operating Temperature: -30°C ~ 70°C; RoHS: RoHS Compliant; Supplier: Digi-Key; Features: Gain Control, Interrupt, Sleep Mode; Category: Sensors, Transducers; ComponentLink1URL: http://www.ams.com/content/download/319904/1118122/TCS3471.pdf; ComponentLink1Description: http://www.ams.com/content/download/319904/1118122/TCS3471.pdf; Pricing: 1=3.25, 10=2.79, 25=2.5112, 100=2.2786, 250=2.04604, 500=1.76706, 1000=1.48804 (CAD)
footprint 6 LD ODFN - No Pad
pins: 1 VDD "Supply Voltage", 2 SCL "I2C Serial Clock", 3 GND "Power supply ground. All voltages are referenced to GND.", 4 NC "NO Connect", 5 INT "Interrupt Open Drain", 6 SDA "I2C Serial Data"

## Term Blk 4pin
designator J?
TERM BLOCK HDR 4POS 2.5MM
signal-integrity model Connector
footprint TERM BLOCK HDR 4POS R/A 2.5MM (277-9958-1-ND)
pins: 1, 2, 3, 4

## Term Blk 6pin
designator J?
TERM BLOCK HDR 6POS5.08MM
signal-integrity model Connector
footprint TERM BLOCK HDR 6POS VERT 5.08MM (OSTOQ0654501-ND)
footprint TERM BLOCK HDR 6POS R/A 5.08MM (OSTOQ0654501-ND)
pins: 1, 2, 3, 4, 5, 6

## THV 12-300P/N
designator *
footprint THV (THV 12-300P/N)
pins: 0 CASE "Case GND", 1 VCC "+Vin", 2 GND "-Vin", 3 Vadj "V adjust", 4 Vref "V reference", 5 Com "Vout Common", 6 Vout "V out", 7 CASE "Case GND"

## TLC5940
designator U*
16-Channel LED Driver w/EEprom DOT Correction & Grayscale PWM Control
footprint PWD ( R-PDSO-G**) (Footprint not found)
pins: 0 Thermal PAD (power) "GND THERMAL PAD", 1 GND, 2 BLANK, 3 XLAT, 4 SCLK, 5 SIN, 6 VPRG, 7 OUT0, 8 OUT1, 9 OUT2, 10 OUT3, 11 OUT4, 12 OUT5, 13 OUT6, 14 OUT7, 15 OUT8, 16 OUT9, 17 OUT10, 18 OUT11, 19 OUT12, 20 OUT13, 21 OUT14, 22 OUT15, 23 XERR, 24 SOUT, 25 GSCLK, 26 DCPRG, 27 IREF, 28 VCC

## TLC59108
designator *
8-Bit Fast Mode Plus (FM+) I2C Bus Constant-Current LED Sink Driver
footprint PW020_L (TSOP, 20-Leads, Body 6.5x4.4mm, Pitch 0.65mm, IPC High Density)
pins: 1 Rext "Input terminal used to connect an external resistor for setting up all output currents", 2 A0 (in) "Address input 0", 3 A1 (in) "Address input 1", 4 A2 (in) "Address input 2", 5 A3 (in) "Address input 3", 6 /OUT0 (out) "Constant current output 0, LED on at low", 7 /OUT1 (out) "Constant current output 1, LED on at low", 8 GND (power) "Ground", 9 /OUT2 (out) "Constant current output 2, LED on at low", 10 /OUT3 (out) "Constant current output 3 LED on at low", 11 /OUT4 (out) "Constant current output 4, LED on at low", 12 /OUT5 (out) "Constant current output 5, LED on at low", 13 GND (power) "Ground", 14 /OUT6 (out) "Constant current output 6, LED on at low", 15 /OUT7 (out) "Constant current output 7, LED on at low", 16 GND (power) "Ground", 17 /RESET (in) "Active-low reset input", 18 SCL (in) "Serial clock input", 19 SDA (io) "Serial data input/output", 20 VCC (power) "Power supply"

## TLC59208F
designator *
8-Bit Fast-Mode Plus (FM+) I2C-Bus LED Driver
pins: 1 A0, 2 A1, 3 A2, 4 /OUT0, 5 /OUT1, 6 /OUT2, 7 /OUT3, 8 GND, 9 /OUT4, 10 /OUT5, 11 /OUT6, 12 /OUT7, 13 /RESET, 14 SDA, 15 SCL, 16 VCC

## TLV702xx
designator U?
300-mA, Low-IQ, Low-Dropout Regulator
footprint SOT23-5 (SOT23, 5-Leads, Body 2.9x1.6mm, Pitch 0.95mm, Lead Span 2.7mm, IPC Low Density)
pins: 1 IN "Input pin 1uf Ceramic cap recommend", 2 GND "Ground pin", 3 EN "Enable pin. Driving EN over 0.9 V turns on the regulator", 4 NC "No connection. Tie to ground", 5 OUT "Regulated output voltage pin. A small 1-µF ceramic capacitor is need"

## TMP442
designator *
± 1 ° C TEMPERATURE SENSOR  (DIE + 2 Remote ) with Automatic Beta Compensation,  Series-R, and ? -Factor in a SOT23-8
footprint SOT23-8
pins: 1 DXP1 "Potentiometer A LOW Terminal", 2 DXN1 "Potentiometer A LOW Terminal", 3 DXP2 "Potentiometer A LOW Terminal", 4 DXN2 "Potentiometer A LOW Terminal", 5 GND, 6 SDA "I2C DATA", 7 SCL "I2C CLOCK", 8 V+ "POWER"

## TPS2042
designator U?, comment Load SW  Supplier Part Number: 296-17002-1-ND
CURRENT-LIMITED, POWER-DISTRIBUTION SWITCHES; Manufacturer Part Number: TPS2042BDR; Manufacturer: Texas Instruments; Voltage - Load: 2.7 V ~ 5.5 V; Current - Output (Max): 500mA; Voltage - Supply (Vcc/Vdd): Not Required; Interface: On/Off; Switch Type: General Purpose; Output Type: N-Channel; Input Type: Non-Inverting; Fault Protection: Current Limiting (Fixed), Over Temperature, UVLO; Ratio - Input:Output: 1:2; Rds On (Typ): 70 mOhm; Output Configuration: High Side; Number of Outputs: 2; Pricing: 1=2.59, 10=2.069, 100=1.6639, 500=1.31438, 1000=1.20531 (CAD); ComponentLink1URL: http://www.ti.com/lit/ds/symlink/tps2051b.pdf; ComponentLink1Description: http://www.ti.com/lit/ds/symlink/tps2051b.pdf; Supplier: Digi-Key; Supplier Device Package: 8-SOIC; RoHS: RoHS Compliant; Category: Integrated Circuits (ICs); Operating Temperature: -40°C ~ 125°C (TJ); Packaging: Cut Tape (CT); Features: Status Flag; Package / Case: 8-SOIC (0.154", 3.90mm Width)
footprint SON8_0.65MM (DRB)
pins: 0 PAD "Internally connected to GND; used to heat-sink the part to the circuit board PowerPAD™ - -  traces. Should be connected to GND pin", 1 GND "Ground", 2 IN "Input voltage", 3 ~{EN1} "Enable input, logic low turns on power switch IN-OUT1", 4 ~{EN2} "Enable input, logic low turns on power switch IN-OUT2", 5 ~{OC2} "Overcurrent, open-drain output, active low, IN-OUT2", 6 OUT2 "Power-switch output, IN-OUT2", 7 OUT1 "Power-switch output, IN-OUT1", 8 ~{OC1} "Overcurrent, open-drain output, active low, IN-OUT1"

## TPS61090
designator U?
Synchronous Boost Converter With 2-A Switch
footprint QFN 16 PQFN VQFN PVQFN 16 RSA (QFN, 16-Leads, Body 4.00x4.00mm, Pitch 0.65mm, Thermal Pad 2.70x2.70mm, IPC Medium Density PVQFN 16 RSA)
pins: 0 PowerPAD, 1 Vout "DC-DC output", 2 NC, 3 SW "Boost and Rectify switch input", 4 SW "Boost and Rectify switch input", 5 PGND "Power Ground", 6 PGND "Power Ground", 7 PGND "Power Ground", 8 VBAT "Supply Voltage", 9 LBI "Low battery comparator input (comparator enabled with EN)", 10 SYNC "Enable/disable power save mode (1: VBAT disabled, 0: GND enabled, clock signal for  synchronization)", 11 EN "Enable input. (1/VBAT enabled, 0/GND disabled)", 12 LBO "Low battery comparator output (open drain)", 13 GND "Control/logic ground", 14 FB "Voltage feedback of adjustable versions", 15 Vout "DC-DC output", 16 Vout "DC-DC output"

## Transistor
designator Q?, comment PNP Bias Resistor Transistor
MMUN2133LT1GOSCT-ND; Manufacturer: ON Semiconductor; Current - Collector Cutoff (Max): 500nA; Vce Saturation (Max) @ Ib, Ic: 250mV @ 300µA, 10mA; Resistor - Emitter Base (R2) (Ohms): 47k; Transistor Type: PNP - Pre-Biased; Current - Collector (Ic) (Max): 100mA; DC Current Gain (hFE) (Min) @ Ic, Vce: 80 @ 5mA, 10V; Resistor - Base (R1) (Ohms): 4.7k; Power - Max: 246mW; Voltage - Collector Emitter Breakdown (Max): 50V; Frequency - Transition: -; Mounting Type: Surface Mount; Supplier Device Package: SOT-23-3 (TO-236); Manufacturer Part Number: MMUN2133LT1G; Category: Discrete Semiconductor Products; Supplier: Digi-Key; Package / Case: TO-236-3, SC-59, SOT-23-3; Packaging: Cut Tape (CT); RoHS: RoHS Compliant; ComponentLink1URL: http://www.onsemi.com/pub_link/Collateral/DTA143Z-D.PDF; ComponentLink1Description: http://www.onsemi.com/pub_link/Collateral/DTA143Z-D.PDF; Pricing: 1=0.2, 10=0.178, 25=0.1624, 100=0.1166, 250=0.06872, 500=0.05702, 1000=0.03889 (CAD); Supplier Part Number: MMUN2133LT1GOSCT-ND
footprint SOT23-3 (SOT23-3 MEDIUM DENSITY)
pins: 1 B, 2 E, 3 C

## TVS Diode (2 Channel)
designator *  Supplier Part Number: ESD8V0L2B03LE6327XTMA1CT-ND
Manufacturer Part Number: ESD8V0L2B-03L E6327; Manufacturer: Infineon Technologies; Bidirectional Channels: 2; Description: TVS DIODE 22VWM 26VC TSLP2; Voltage - Reverse Standoff (Typ): 22V (Max); Voltage - Breakdown (Min): 23V (Typ); Capacitance @ Frequency: 4pF @ 1MHz; Current - Peak Pulse (10/1000µs): 1A (8/20µs); Voltage - Clamping (Max) @ Ipp: 26V (Typ); Power Line Protection: No; Type: Zener; Supplier: Digi-Key; Category: Circuit Protection; Unidirectional Channels: -; RoHS: RoHS Compliant; Applications: General Purpose; Package / Case: SC-101, SOT-883; Power - Peak Pulse: -; Operating Temperature: -55°C ~ 125°C (TJ); Supplier Device Package: PG-TSLP-3; Packaging: Cut Tape (CT); Mounting Type: Surface Mount; ComponentLink1URL: http://www.infineon.com/dgdl/esd8v0lseries.pdf?folderId=db3a30431441fb5d011488a9e66f0ded&fileId=db3a30431441fb5d011488ab01860dee; ComponentLink1Description: http://www.infineon.com/dgdl/esd8v0lseries.pdf?folderId=db3a30431441fb5d011488a9e66f0ded&fileId=db3a30431441fb5d011488ab01860dee; Pricing: 1=0.59, 10=0.438, 100=0.2481, 500=0.16456, 1000=0.1262 (CAD)
footprint SOT23-3 (SOT23-3 MEDIUM DENSITY)
footprint SON35P100X50-3N (SON, 3-Leads, Body 2.00x1.00mm, Pitch 0.35mm, IPC Medium Density)
pins: 1 CAT1, 2 CAT2, 3 Double Cat

## UEXT
designator *
UEXT
footprint HDR2X5 (Footprint not found)
pins: 1 3.3V "+3.3 volt", 2 GND "Ground", 3 TXD "Transmit Data", 4 RXD "Receive Data", 5 SCL "Clock for I2C bus", 6 SDA "Bidirectional Serial Data for I2C bus", 7 MISO "Serial Data In for SPI bus", 8 MOSI "Serial Data Out for SPI bus", 9 SCK "Clock for SPI bus", 10 SSEL "Slave Select for SPI bus"

## ULN2003
designator U?
HIGH-VOLTAGE, HIGH-CURRENT DARLINGTON TRANSISTOR ARRAYS; Part number: ULN2003A
footprint SOIC16_M (SOIC, 16-Leads, Body 9.9x3.9mm, Pitch 1.27mm, IPC Low Density)
pins: 1 1B, 2 2B "Tip", 3 3B "Tip", 4 4B "Tip", 5 5B "Tip", 6 6B "Tip", 7 7B "Tip", 8 GND "Tip", 9 COM "Tip", 10 7C "Tip", 11 6C "Tip", 12 5C "Tip", 13 4C "Tip", 14 3C "Tip", 15 2C "Tip", 16 1C "Tip"

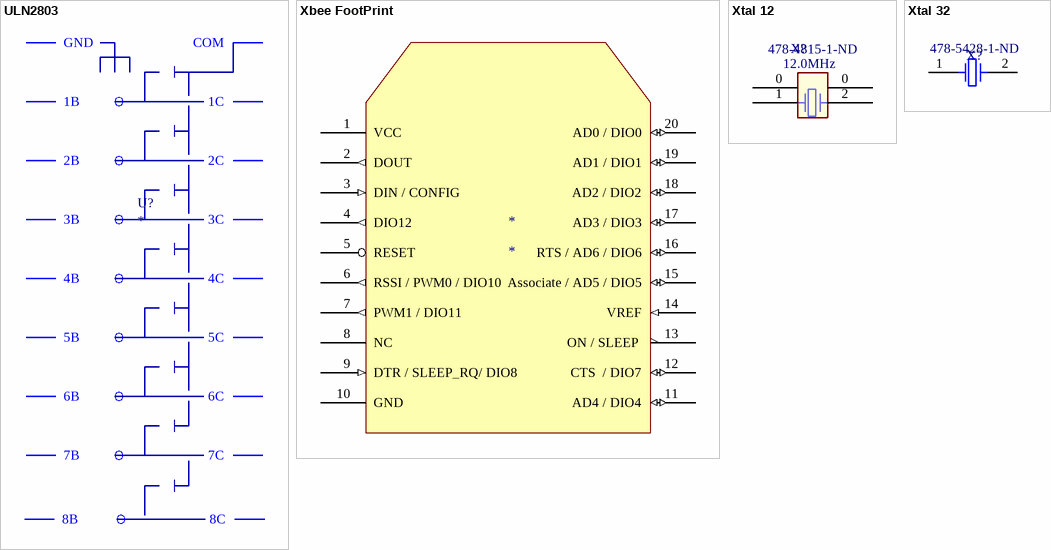
[diagram p7: symbols ULN2803 to Xtal 32]

## ULN2803
designator U?
HIGH-VOLTAGE, HIGH-CURRENT DARLINGTON TRANSISTOR ARRAYS; Part number: ULN2803A
footprint SOP18 (DW R-PDSO-G18)
footprint DIP18
pins: 1 1B, 2 2B "Tip", 3 3B "Tip", 4 4B "Tip", 5 5B "Tip", 6 6B "Tip", 7 7B "Tip", 8 8B "Tip", 9 GND "Tip", 10 COM "Tip", 11 8C "Tip", 12 7C "Tip", 13 6C "Tip", 14 5C "Tip", 15 4C "Tip", 16 3C "Tip", 17 2C "Tip", 18 1C "Tip"

## Xbee FootPrint
designator *
footprint XBEE Module
footprint XBEE Pro Module
footprint XBEE Pro Module - smd
pins: 1 VCC (power), 2 DOUT (out), 3 DIN / CONFIG  (in), 4 DIO12 (out), 5 RESET "(reset pulse must be at least 200 ns)", 6 RSSI / PWM0 / DIO10 (out), 7 PWM1 / DIO11 (out), 8 NC, 9 DTR / SLEEP_RQ/ DIO8 (in), 10 GND (power), 11 AD4 / DIO4 (io), 12 CTS  / DIO7 (io), 13 ON / SLEEP , 14 VREF (in) "Voltage Reference for A/D Inputs", 15  Associate / AD5 / DIO5 (io), 16  RTS / AD6 / DIO6 (io), 17  AD3 / DIO3 (io), 18 AD2 / DIO2 (io), 19  AD1 / DIO1 (io), 20  AD0 / DIO0 (io)

## Xtal 12
designator X?  value 12.0MHz  Supplier Part Number: 478-4815-1-ND
PartGroup: Frequency devices,Crystals,SMD; Manufacturer: AVX Corp/Kyocera Corp; MPN: FQ5032B-12-C-C-C-200-1; Manufacturer Part Number: CX3225SB16000E0FPZ25; AN: A07-0042; Tolerance: 30PPM; ESR (Equivalent Series Resistance): 54 Ohm; Load Capacitance: 9pF; Frequency Tolerance: ±10ppm; Frequency Stability: ±16ppm; Frequency: 16MHz; Operating Mode: Fundamental; Height: 0.024" (0.60mm); Supplier 1: Digi-Key; Size / Dimension: 0.126" L x 0.098" W (3.20mm x 2.50mm); Supplier: Digi-Key; Type: MHz Crystal; Packaging: Cut Tape (CT); Operating Temperature: -40°C ~ 85°C; RoHS: RoHS Compliant; Ratings: -; Mounting Type: Surface Mount; Package / Case: 4-SMD, No Lead (DFN, LCC); Category: Crystals and Oscillators; Pricing: 1=2.81, 10=2.692, 50=2.6326, 100=2.2514, 500=2.1918 (CAD)
footprint Xtal smd 12Mhz (CX5032SB   5.0×3.2mm)
footprint Xtal smd 3.2X2.5
pins: 0, 0, 1, 2

## Xtal 32
designator X?  Supplier Part Number: 478-5428-1-ND  (hidden comment: Xtal 32)
Manufacturer Part Number: ST3215SB32768H5HPWAA; Manufacturer: AVX Corp/Kyocera Corp; Load Capacitance: 12.5pF; ESR (Equivalent Series Resistance): 70 kOhm; Operating Mode: Fundamental; Frequency: 32.768kHz; Frequency Tolerance: ±20ppm; Height: 0.035" (0.90mm); Category: Crystals and Oscillators; Supplier: Digi-Key; Mounting Type: Surface Mount; Operating Temperature: -40°C ~ 85°C; RoHS: RoHS Compliant; Package / Case: 2-SMD; Frequency Stability: -; Type: kHz Crystal (Tuning Fork); Ratings: -; Size / Dimension: 0.126" L x 0.059" W (3.20mm x 1.50mm); Packaging: Cut Tape (CT); ComponentLink1URL: http://media.digikey.com/PDF/Data%20Sheets/AVX%20PDFs/ST3215SB32768H5HPWAA.pdf; ComponentLink1Description: http://media.digikey.com/PDF/Data%20Sheets/AVX%20PDFs/ST3215SB32768H5HPWAA.pdf; Pricing: 1=1.13, 10=0.94, 50=0.8434, 100=0.7505, 500=0.71472, 750=0.65753, 1000=0.60036 (CAD)
footprint Xtal smd 32khz - larger (ST3215SB  3.2×1.5mm)
footprint Xtal smd 32khz (ST2012SB  2.0×1.2mm)
pins: 1, 2